# EAGLE library part IC_DIL2DSUB (library mylib_20130829)
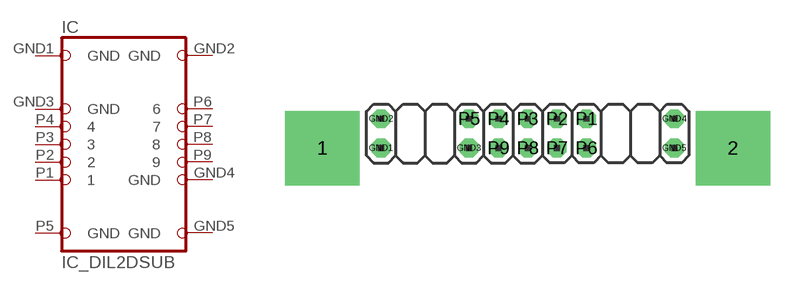
[diagram p10: symbol with the pads of REF_IC_2X11+; footprint REF_IC_2X11+]

Designator prefix IC

## IC_DIL2DSUB  [REF_IC_2X11+]
GND1  GND  pwr
GND2  GND  pwr
GND3  GND  pwr
GND4  GND  pwr
GND5  GND  pwr
P1  1
P2  2
P3  3
P4  4
P5  GND  pwr
P6  6
P7  7
P8  8
P9  9

## Footprint REF_IC_2X11+ (pad centres in mm)
drill 3.302 pad 6.452 square: 1 -17.78,-1.27; 2 17.78,-1.27
drill 1.092 octagon: GND1 -12.7,-1.27; GND2 -12.7,1.27; GND3 -5.08,-1.27; GND4 12.7,1.27; GND5 12.7,-1.27; P1 5.08,1.27; P2 2.54,1.27; P3 0,1.27; P4 -2.54,1.27; P5 -5.08,1.27; P6 5.08,-1.27; P7 2.54,-1.27; P8 0,-1.27; P9 -2.54,-1.27